# EAGLE library part DARIO-REV-A2 (library custom)
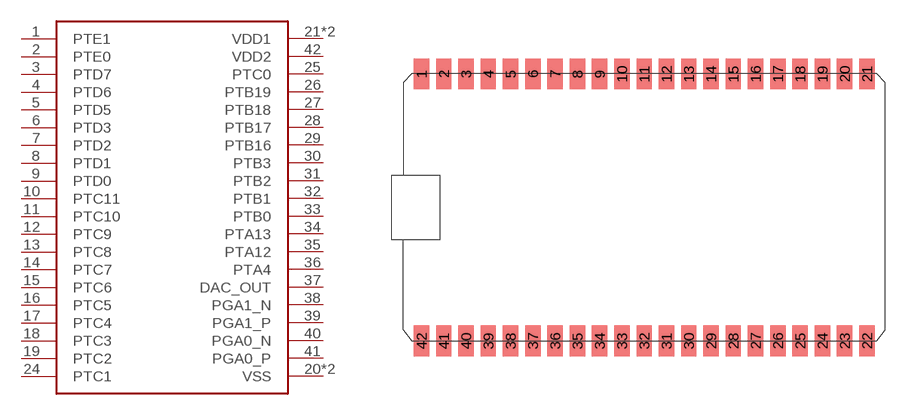
[diagram p3: symbol with the pads of DARIO-REVA2; footprint DARIO-REVA2]

Designator prefix U

## DARIO-REV-A2  [DARIO-REVA2]
1  PTE1
2  PTE0
3  PTD7
4  PTD6
5  PTD5
6  PTD3
7  PTD2
8  PTD1
9  PTD0
10  PTC11
11  PTC10
12  PTC9
13  PTC8
14  PTC7
15  PTC6
16  PTC5
17  PTC4
18  PTC3
19  PTC2
20  VSS  pwr
21  VDD1  pwr
22  VDD1  pwr
23  VSS  pwr
24  PTC1
25  PTC0
26  PTB19
27  PTB18
28  PTB17
29  PTB16
30  PTB3
31  PTB2
32  PTB1
33  PTB0
34  PTA13
35  PTA12
36  PTA4
37  DAC_OUT
38  PGA1_N
39  PGA1_P
40  PGA0_N
41  PGA0_P
42  VDD2  pwr

## Footprint DARIO-REVA2 (pad centres in mm)
smd 1.75 x 3.5: 1 -25.4,15.24; 2 -22.86,15.24; 3 -20.32,15.24; 4 -17.78,15.24; 5 -15.24,15.24; 6 -12.7,15.24; 7 -10.16,15.24; 8 -7.62,15.24; 9 -5.08,15.24; 10 -2.54,15.24; 11 0,15.24; 12 2.54,15.24; 13 5.08,15.24; 14 7.62,15.24; 15 10.16,15.24; 16 12.7,15.24; 17 15.24,15.24; 18 17.78,15.24; 19 20.32,15.24; 20 22.86,15.24; 21 25.4,15.24; 22 25.4,-15.24; 23 22.86,-15.24; 24 20.32,-15.24; 25 17.78,-15.24; 26 15.24,-15.24; 27 12.7,-15.24; 28 10.16,-15.24; 29 7.62,-15.24; 30 5.08,-15.24; 31 2.54,-15.24; 32 0,-15.24; 33 -2.54,-15.24; 34 -5.08,-15.24; 35 -7.62,-15.24; 36 -10.16,-15.24; 37 -12.7,-15.24; 38 -15.24,-15.24; 39 -17.78,-15.24; 40 -20.32,-15.24; 41 -22.86,-15.24; 42 -25.4,-15.24